# EAGLE library part J-HARWIN-M55-6021242R (library J-Harwin-M55-6021242R)
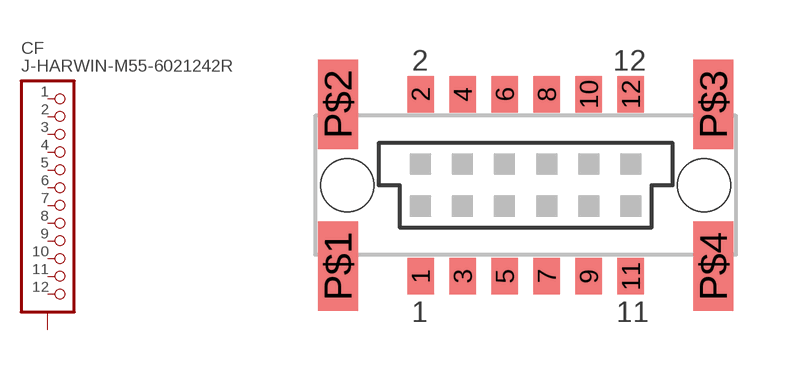
[diagram p0: symbol with the pads of HARWIN-M55-6021242R; footprint HARWIN-M55-6021242R]

Designator prefix CF

## J-HARWIN-M55-6021242R  [HARWIN-M55-6021242R]
1  1  pas
2  2  pas
3  3  pas
4  4  pas
5  5  pas
6  6  pas
7  7  pas
8  8  pas
9  9  pas
10  10  pas
11  11  pas
12  12  pas
P$1  SHIELDS  pas
P$2  SHIELDS  pas
P$3  SHIELDS  pas
P$4  SHIELDS  pas

## Footprint HARWIN-M55-6021242R (pad centres in mm)
smd 0.8 x 1.1: 1 -3.175,-2.75; 2 -3.175,2.75; 3 -1.905,-2.75; 4 -1.905,2.75; 5 -0.635,-2.75; 6 -0.635,2.75; 7 0.635,-2.75; 8 0.635,2.75; 9 1.905,-2.75; 10 1.905,2.75; 11 3.175,-2.75; 12 3.175,2.75
smd 1.2 x 2.7: P$1 -5.67,-2.45; P$2 -5.67,2.45; P$3 5.67,2.45; P$4 5.67,-2.45
hole 1.6 at -5.385,0
hole 1.6 at 5.385,0